# EAGLE library part ATTINY85V (library Arduino Dev Parts)
8-bit Microcontroller with In-System Programmable Flash
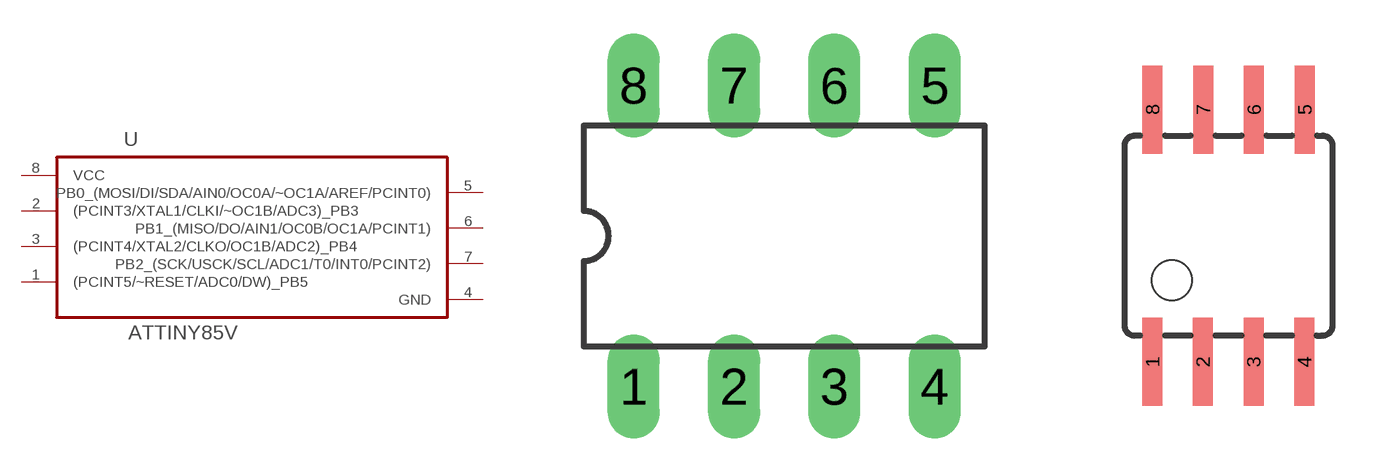
[diagram p5: symbol with the pads of DIL08; footprints DIL08, SOIC8]

Designator prefix U

## ATTINY85V-10PU (MF: ATMEL; MPN: ATTINY85V-10PU; OC_FARNELL: 1455165)  [DIL08]
1  (PCINT5/~RESET/ADC0/DW)_PB5
2  (PCINT3/XTAL1/CLKI/~OC1B/ADC3)_PB3
3  (PCINT4/XTAL2/CLKO/OC1B/ADC2)_PB4
4  GND  pas
5  PB0_(MOSI/DI/SDA/AIN0/OC0A/~OC1A/AREF/PCINT0)
6  PB1_(MISO/DO/AIN1/OC0B/OC1A/PCINT1)
7  PB2_(SCK/USCK/SCL/ADC1/T0/INT0/PCINT2)
8  VCC  pwr

## ATTINY85V-20PU (MF: ATMEL; MPN: ATTINY85-20PU; OC_FARNELL: 1455162)  [DIL08]
Pads as for DIL08

## ATTINY85V-10SU (MF: ATMEL; MPN: ATTINY85V-10SU; OC_FARNELL: 1455166)  [SOIC8]
Pads as for DIL08

## ATTINY85V-20SU (MF: ATMEL; MPN: ATTINY85-20SU; OC_FARNELL: 1455164)  [SOIC8]
Pads as for DIL08

## ATTINY85V-10MU (MF: ATMEL; MPN: ATTINY85V-10MU; OC_FARNELL: 1972177)  [MLF20]
1  (PCINT5/~RESET/ADC0/DW)_PB5
2  (PCINT3/XTAL1/CLKI/~OC1B/ADC3)_PB3
5  (PCINT4/XTAL2/CLKO/OC1B/ADC2)_PB4
8  GND  pas
11  PB0_(MOSI/DI/SDA/AIN0/OC0A/~OC1A/AREF/PCINT0)
12  PB1_(MISO/DO/AIN1/OC0B/OC1A/PCINT1)
14  PB2_(SCK/USCK/SCL/ADC1/T0/INT0/PCINT2)
15  VCC  pwr

## ATTINY85V-20MU (MF: ATMEL; MPN: ATTINY85-20MU; OC_FARNELL: 1972175)  [MLF20]
Pads as for MLF20

## Footprint DIL08 (pad centres in mm)
Dual In Line
drill 0.813 long: 1 -3.81,-3.81; 2 -1.27,-3.81; 3 1.27,-3.81; 4 3.81,-3.81; 5 3.81,3.81; 6 1.27,3.81; 7 -1.27,3.81; 8 -3.81,3.81

## Footprint SOIC8 (pad centres in mm)
Wide Plastic Gull Wing Small Outline Package
smd 0.5 x 2.2: 1 -1.905,-3.154; 2 -0.645,-3.154; 3 0.625,-3.154; 4 1.895,-3.154; 5 1.905,3.154; 6 0.635,3.154; 7 -0.635,3.154; 8 -1.905,3.154

## Footprint MLF20 (pad centres in mm)
HP-VFQFP-N20 Micro Lead Frame package (MLF)
smd 0.8 x 0.23: 1 -2,1; 2 -2,0.5; 3 -2,0; 4 -2,-0.5; 5 -2,-1; 11 2,-1; 12 2,-0.5; 13 2,0; 14 2,0.5; 15 2,1
smd 0.23 x 0.8: 6 -1,-2; 7 -0.5,-2; 8 0,-2; 9 0.5,-2; 10 1,-2; 16 1,2; 17 0.5,2; 18 0,2; 19 -0.5,2; 20 -1,2